# Altium schematic symbol library Schlib1.SchLib: 6 symbols
Pins are listed as number, name and electrical type; pins without a type are passive.

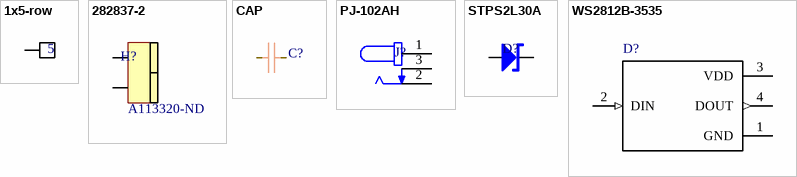
[diagram p0: symbols 1x5-row to WS2812B-3535]

## 1x5-row
designator H?
footprint 1x5-row
pins: 1, 2, 3, 4, 5

## 282837-2
designator H?  Supplier Part Number 1: A113320-ND
TERM BLK 2P SIDE ENT 5.08MM PCB; Supplier 1: Digi-Key
footprint H_282837-2 (TERMINAL BLOCK 2WAY)
pins: 1, 2

## CAP
designator C?  (value not drawn)
MF: Samsung Electro-Mechanics; MP: CL10B104KA8NNNC; LCSC Part #: C1590; Footprint: 0603
footprint C0603
footprint C0805
footprint C1206
pins: 1 N/A, 2 N/A

## PJ-102AH
designator J?
2.0 x 6.5 mm, 5.0 A, Horizontal, Through Hole, Tapered Pins, Dc Power Jack Connector; MF: CUI Devices; MP: PJ-102AH; Digi-Key_Part_Number: CP-102AH-ND; CUI_purchase_URL: https://www.cuidevices.com/product/interconnect/connectors/dc-power-connectors/jacks/pj-102ah?utm_source=snapeda.com&utm_medium=referral&utm_campaign=snapedaBOM; SnapEDA_Link: https://www.snapeda.com/parts/PJ-102AH/CUI%20Devices/view-part/228264/?ref=snap; Package: None; Value: *; Digi-Key_Purchase_URL: https://www.digikey.com/product-detail/en/cui-devices/PJ-102AH/CP-102AH-ND/408448?utm_source=snapeda&utm_medium=aggregator&utm_campaign=symbol
footprint PJ-102AH
pins: 1, 2, 3

## STPS2L30A
designator D?
Schottky Diode
footprint STPS2L30A
pins: A, K

## WS2812B-3535
designator D?, comment WS2812B-Mini  (value not drawn)
WS2812B-Mini 35x35mm; MF: Worldsemi; LCSC Part #: C114583; Footprint: SMD,3.5x3.5mm; MP: WS2812B-Mini
footprint WS2812B-3535
pins: 1 GND (power), 2 DIN (in), 3 VDD (power), 4 DOUT (out)